# Altium schematic symbol library Resistor - Surface Mount - 0201.SchLib: 301 symbols (part 4 of 5)
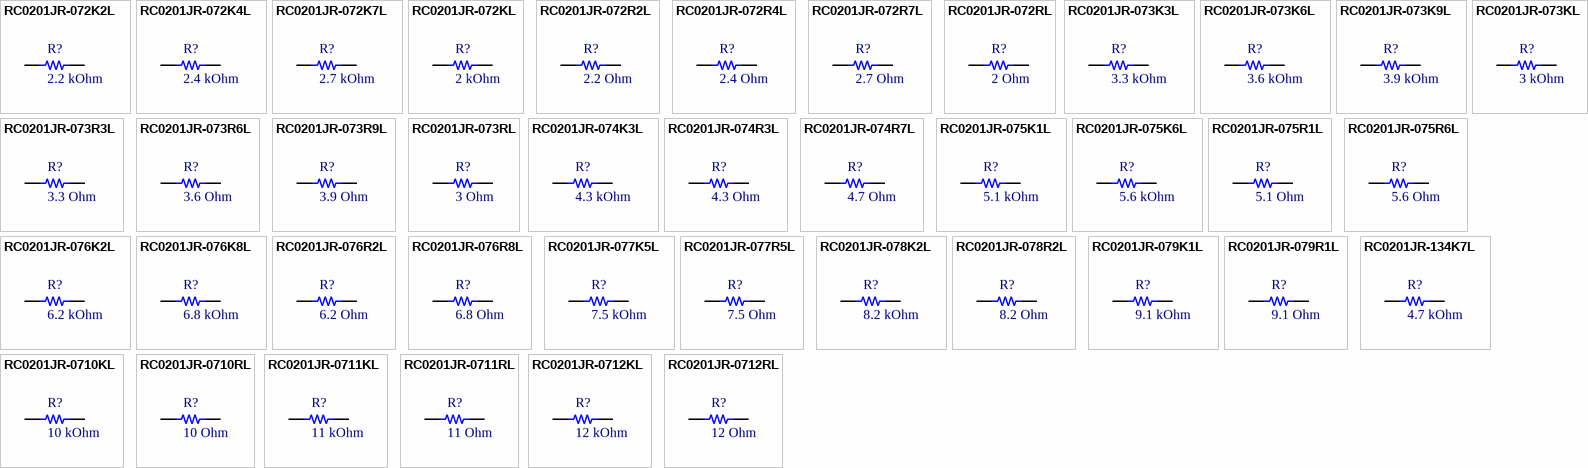
[diagram p10: symbols RC0201JR-072K2L to RC0201JR-0712RL]

## RC0201JR-072RL
designator R?, comment 2 Ohm
RES 2 OHM 5% 1/20W 0201; Manufacturer: Yageo; Part Number: RC0201JR-072RL; Power (Watt): 0.05W; ComponentLink1Description: Datasheet; ComponentLink1URL: https://www.yageo.com/upload/media/product/products/datasheet/rchip/PYu-RC_Group_51_RoHS_L_12.pdf; ComponentLink2Description: Digikey link; ComponentLink2URL: https://www.digikey.com/en/products/detail/yageo/RC0201JR-072RL/5917139; ComponentLink3Description: LCSC link; ComponentLink3URL: https://lcsc.com/product-detail/Chip-Resistor-Surface-Mount_YAGEO-RC0201JR-072RL_C474641.html?s_z=n_RC0201JR-072RL; Value: 2 Ohm; Package: 0201 (0603 Metric); Tolerance: ±5%; Operating Temperature: -55°C ~ 125°C; Supplier 1: Digikey; Supplier Part Number 1: 13-RC0201JR-072RLCT-ND
footprint R0201
pins: 1, 2

## RC0201JR-073K3L
designator R?, comment 3.3 kOhm
RES 3.3K OHM 5% 1/20W 0201; Manufacturer: Yageo; Part Number: RC0201JR-073K3L; Power (Watt): 0.05W; ComponentLink1Description: Datasheet; ComponentLink1URL: https://www.yageo.com/upload/media/product/products/datasheet/rchip/PYu-RC_Group_51_RoHS_L_12.pdf; ComponentLink2Description: Digikey link; ComponentLink2URL: https://www.digikey.com/en/products/detail/yageo/RC0201JR-073K3L/1948949; ComponentLink3Description: LCSC link; ComponentLink3URL: https://lcsc.com/product-detail/Chip-Resistor-Surface-Mount_YAGEO-RC0201JR-073K3L_C138099.html?s_z=n_RC0201JR-073K3L; Value: 3.3 kOhm; Package: 0201 (0603 Metric); Tolerance: ±5%; Operating Temperature: -55°C ~ 125°C; Supplier 1: Future Electronics; Supplier Part Number 1: 6691901
footprint R0201
pins: 1, 2

## RC0201JR-073K6L
designator R?, comment 3.6 kOhm
RES 3.6K OHM 5% 1/20W 0201; Manufacturer: Yageo; Part Number: RC0201JR-073K6L; Power (Watt): 0.05W; ComponentLink1Description: Datasheet; ComponentLink1URL: https://www.yageo.com/upload/media/product/products/datasheet/rchip/PYu-RC_Group_51_RoHS_L_12.pdf; ComponentLink2Description: Digikey link; ComponentLink2URL: https://www.digikey.com/en/products/detail/yageo/RC0201JR-073K6L/5280752; ComponentLink3Description: LCSC link; ComponentLink3URL: https://lcsc.com/product-detail/Chip-Resistor-Surface-Mount_YAGEO-RC0201JR-073K6L_C273284.html?s_z=n_RC0201JR-073K6L; Value: 3.6 kOhm; Package: 0201 (0603 Metric); Tolerance: ±5%; Operating Temperature: -55°C ~ 125°C; Supplier 1: Digikey; Supplier Part Number 1: YAG2892CT-ND
footprint R0201
pins: 1, 2

## RC0201JR-073K9L
designator R?, comment 3.9 kOhm
RES 3.9K OHM 5% 1/20W 0201; Manufacturer: Yageo; Part Number: RC0201JR-073K9L; Power (Watt): 0.05W; ComponentLink1Description: Datasheet; ComponentLink1URL: https://www.yageo.com/upload/media/product/products/datasheet/rchip/PYu-RC_Group_51_RoHS_L_12.pdf; ComponentLink2Description: Digikey link; ComponentLink2URL: https://www.digikey.com/en/products/detail/yageo/RC0201JR-073K9L/1948950; ComponentLink3Description: LCSC link; ComponentLink3URL: https://lcsc.com/product-detail/Chip-Resistor-Surface-Mount_YAGEO-RC0201JR-073K9L_C295851.html?s_z=n_RC0201JR-073K9L; Value: 3.9 kOhm; Package: 0201 (0603 Metric); Tolerance: ±5%; Operating Temperature: -55°C ~ 125°C; Supplier 1: Future Electronics; Supplier Part Number 1: 4187605
footprint R0201
pins: 1, 2

## RC0201JR-073KL
designator R?, comment 3 kOhm
RES 3K OHM 5% 1/20W 0201; Manufacturer: Yageo; Part Number: RC0201JR-073KL; Power (Watt): 0.05W; ComponentLink1Description: Datasheet; ComponentLink1URL: https://www.yageo.com/upload/media/product/products/datasheet/rchip/PYu-RC_Group_51_RoHS_L_12.pdf; ComponentLink2Description: Digikey link; ComponentLink2URL: https://www.digikey.com/en/products/detail/yageo/RC0201JR-073KL/1948951; ComponentLink3Description: LCSC link; ComponentLink3URL: https://lcsc.com/product-detail/Chip-Resistor-Surface-Mount_YAGEO-RC0201JR-073KL_C274884.html?s_z=n_RC0201JR-073KL; Value: 3 kOhm; Package: 0201 (0603 Metric); Tolerance: ±5%; Operating Temperature: -55°C ~ 125°C; Supplier 1: Digikey; Supplier Part Number 1: 311-3KNCT-ND
footprint R0201
pins: 1, 2

## RC0201JR-073R3L
designator R?, comment 3.3 Ohm
RES 3.3 OHM 5% 1/20W 0201; Manufacturer: Yageo; Part Number: RC0201JR-073R3L; Power (Watt): 0.05W; ComponentLink1Description: Datasheet; ComponentLink1URL: https://www.yageo.com/upload/media/product/products/datasheet/rchip/PYu-RC_Group_51_RoHS_L_12.pdf; ComponentLink2Description: Digikey link; ComponentLink2URL: https://www.digikey.com/en/products/detail/yageo/RC0201JR-073R3L/1115878; ComponentLink3Description: LCSC link; ComponentLink3URL: https://lcsc.com/product-detail/Chip-Resistor-Surface-Mount_YAGEO-RC0201JR-073R3L_C274339.html?s_z=n_RC0201JR-073R3L; Value: 3.3 Ohm; Package: 0201 (0603 Metric); Tolerance: ±5%; Operating Temperature: -55°C ~ 125°C; Supplier 1: Future Electronics; Supplier Part Number 1: 5303862
footprint R0201
pins: 1, 2

## RC0201JR-073R6L
designator R?, comment 3.6 Ohm
RES 3.6 OHM 5% 1/20W 0201; Manufacturer: Yageo; Part Number: RC0201JR-073R6L; Power (Watt): 0.05W; ComponentLink1Description: Datasheet; ComponentLink1URL: https://www.yageo.com/upload/media/product/products/datasheet/rchip/PYu-RC_Group_51_RoHS_L_12.pdf; ComponentLink2Description: Digikey link; ComponentLink2URL: https://www.digikey.com/en/products/detail/yageo/RC0201JR-073R6L/5280757; ComponentLink3Description: LCSC link; ComponentLink3URL: *; Value: 3.6 Ohm; Package: 0201 (0603 Metric); Tolerance: ±5%; Operating Temperature: -55°C ~ 125°C; Supplier 1: Future Electronics; Supplier Part Number 1: 2814267
footprint R0201
pins: 1, 2

## RC0201JR-073R9L
designator R?, comment 3.9 Ohm
RES 3.9 OHM 5% 1/20W 0201; Manufacturer: Yageo; Part Number: RC0201JR-073R9L; Power (Watt): 0.05W; ComponentLink1Description: Datasheet; ComponentLink1URL: https://www.yageo.com/upload/media/product/products/datasheet/rchip/PYu-RC_Group_51_RoHS_L_12.pdf; ComponentLink2Description: Digikey link; ComponentLink2URL: https://www.digikey.com/en/products/detail/yageo/RC0201JR-073R9L/5280758; ComponentLink3Description: LCSC link; ComponentLink3URL: https://lcsc.com/product-detail/Chip-Resistor-Surface-Mount_YAGEO-RC0201JR-073R9L_C474420.html?s_z=n_RC0201JR-073R9L; Value: 3.9 Ohm; Package: 0201 (0603 Metric); Tolerance: ±5%; Operating Temperature: -55°C ~ 125°C; Supplier 1: Future Electronics; Supplier Part Number 1: 6004140
footprint R0201
pins: 1, 2

## RC0201JR-073RL
designator R?, comment 3 Ohm
RES 3 OHM 5% 1/20W 0201; Manufacturer: Yageo; Part Number: RC0201JR-073RL; Power (Watt): 0.05W; ComponentLink1Description: Datasheet; ComponentLink1URL: https://www.yageo.com/upload/media/product/products/datasheet/rchip/PYu-RC_Group_51_RoHS_L_12.pdf; ComponentLink2Description: Digikey link; ComponentLink2URL: https://www.digikey.com/en/products/detail/yageo/RC0201JR-073RL/5917140; ComponentLink3Description: LCSC link; ComponentLink3URL: https://lcsc.com/product-detail/Chip-Resistor-Surface-Mount_YAGEO-RC0201JR-073RL_C474423.html?s_z=n_RC0201JR-073RL; Value: 3 Ohm; Package: 0201 (0603 Metric); Tolerance: ±5%; Operating Temperature: -55°C ~ 125°C; Supplier 1: Digikey; Supplier Part Number 1: 13-RC0201JR-073RLCT-ND
footprint R0201
pins: 1, 2

## RC0201JR-074K3L
designator R?, comment 4.3 kOhm
RES 4.3K OHM 5% 1/20W 0201; Manufacturer: Yageo; Part Number: RC0201JR-074K3L; Power (Watt): 0.05W; ComponentLink1Description: Datasheet; ComponentLink1URL: https://www.yageo.com/upload/media/product/products/datasheet/rchip/PYu-RC_Group_51_RoHS_L_12.pdf; ComponentLink2Description: Digikey link; ComponentLink2URL: https://www.digikey.com/en/products/detail/yageo/RC0201JR-074K3L/1948956; ComponentLink3Description: LCSC link; ComponentLink3URL: https://lcsc.com/product-detail/Chip-Resistor-Surface-Mount_YAGEO-RC0201JR-074K3L_C295856.html?s_z=n_RC0201JR-074K3L; Value: 4.3 kOhm; Package: 0201 (0603 Metric); Tolerance: ±5%; Operating Temperature: -55°C ~ 125°C; Supplier 1: Digikey; Supplier Part Number 1: 311-4.3KNCT-ND
footprint R0201
pins: 1, 2

## RC0201JR-074R3L
designator R?, comment 4.3 Ohm
RES 4.3 OHM 5% 1/20W 0201; Manufacturer: Yageo; Part Number: RC0201JR-074R3L; Power (Watt): 0.05W; ComponentLink1Description: Datasheet; ComponentLink1URL: https://www.yageo.com/upload/media/product/products/datasheet/rchip/PYu-RC_Group_51_RoHS_L_12.pdf; ComponentLink2Description: Digikey link; ComponentLink2URL: https://www.digikey.com/en/products/detail/yageo/RC0201JR-074R3L/5280765; ComponentLink3Description: LCSC link; ComponentLink3URL: *; Value: 4.3 Ohm; Package: 0201 (0603 Metric); Tolerance: ±5%; Operating Temperature: -55°C ~ 125°C
footprint R0201
pins: 1, 2

## RC0201JR-074R7L
designator R?, comment 4.7 Ohm
RES 4.7 OHM 5% 1/20W 0201; Manufacturer: Yageo; Part Number: RC0201JR-074R7L; Power (Watt): 0.05W; ComponentLink1Description: Datasheet; ComponentLink1URL: https://www.yageo.com/upload/media/product/products/datasheet/rchip/PYu-RC_Group_51_RoHS_L_12.pdf; ComponentLink2Description: Digikey link; ComponentLink2URL: https://www.digikey.com/en/products/detail/yageo/RC0201JR-074R7L/5280766; ComponentLink3Description: LCSC link; ComponentLink3URL: https://lcsc.com/product-detail/Chip-Resistor-Surface-Mount_YAGEO-RC0201JR-074R7L_C474427.html?s_z=n_RC0201JR-074R7L; Value: 4.7 Ohm; Package: 0201 (0603 Metric); Tolerance: ±5%; Operating Temperature: -55°C ~ 125°C; Supplier 1: Digikey; Supplier Part Number 1: YAG2906CT-ND
footprint R0201
pins: 1, 2

## RC0201JR-075K1L
designator R?, comment 5.1 kOhm
RES 5.1K OHM 5% 1/20W 0201; Manufacturer: Yageo; Part Number: RC0201JR-075K1L; Power (Watt): 0.05W; ComponentLink1Description: Datasheet; ComponentLink1URL: https://www.yageo.com/upload/media/product/products/datasheet/rchip/PYu-RC_Group_51_RoHS_L_12.pdf; ComponentLink2Description: Digikey link; ComponentLink2URL: https://www.digikey.com/en/products/detail/yageo/RC0201JR-075K1L/5280770; ComponentLink3Description: LCSC link; ComponentLink3URL: https://lcsc.com/product-detail/Chip-Resistor-Surface-Mount_YAGEO-RC0201JR-075K1L_C163490.html?s_z=n_RC0201JR-075K1L; Value: 5.1 kOhm; Package: 0201 (0603 Metric); Tolerance: ±5%; Operating Temperature: -55°C ~ 125°C; Supplier 1: Digikey; Supplier Part Number 1: YAG2910CT-ND
footprint R0201
pins: 1, 2

## RC0201JR-075K6L
designator R?, comment 5.6 kOhm
RES 5.6K OHM 5% 1/20W 0201; Manufacturer: Yageo; Part Number: RC0201JR-075K6L; Power (Watt): 0.05W; ComponentLink1Description: Datasheet; ComponentLink1URL: https://www.yageo.com/upload/media/product/products/datasheet/rchip/PYu-RC_Group_51_RoHS_L_12.pdf; ComponentLink2Description: Digikey link; ComponentLink2URL: https://www.digikey.com/en/products/detail/yageo/RC0201JR-075K6L/1948961; ComponentLink3Description: LCSC link; ComponentLink3URL: https://lcsc.com/product-detail/Chip-Resistor-Surface-Mount_YAGEO-RC0201JR-075K6L_C138094.html?s_z=n_RC0201JR-075K6L; Value: 5.6 kOhm; Package: 0201 (0603 Metric); Tolerance: ±5%; Operating Temperature: -55°C ~ 125°C; Supplier 1: Digikey; Supplier Part Number 1: 311-5.6KNCT-ND
footprint R0201
pins: 1, 2

## RC0201JR-075R1L
designator R?, comment 5.1 Ohm
RES 5.1 OHM 5% 1/20W 0201; Manufacturer: Yageo; Part Number: RC0201JR-075R1L; Power (Watt): 0.05W; ComponentLink1Description: Datasheet; ComponentLink1URL: https://www.yageo.com/upload/media/product/products/datasheet/rchip/PYu-RC_Group_51_RoHS_L_12.pdf; ComponentLink2Description: Digikey link; ComponentLink2URL: https://www.digikey.com/en/products/detail/yageo/RC0201JR-075R1L/5280773; ComponentLink3Description: LCSC link; ComponentLink3URL: https://lcsc.com/product-detail/Chip-Resistor-Surface-Mount_YAGEO-RC0201JR-075R1L_C309540.html?s_z=n_RC0201JR-075R1L; Value: 5.1 Ohm; Package: 0201 (0603 Metric); Tolerance: ±5%; Operating Temperature: -55°C ~ 125°C; Supplier 1: Digikey; Supplier Part Number 1: YAG2913CT-ND
footprint R0201
pins: 1, 2

## RC0201JR-075R6L
designator R?, comment 5.6 Ohm
RES 5.6 OHM 5% 1/20W 0201; Manufacturer: Yageo; Part Number: RC0201JR-075R6L; Power (Watt): 0.05W; ComponentLink1Description: Datasheet; ComponentLink1URL: https://www.yageo.com/upload/media/product/products/datasheet/rchip/PYu-RC_Group_51_RoHS_L_12.pdf; ComponentLink2Description: Digikey link; ComponentLink2URL: https://www.digikey.com/en/products/detail/yageo/RC0201JR-075R6L/5280774; ComponentLink3Description: LCSC link; ComponentLink3URL: https://lcsc.com/product-detail/Chip-Resistor-Surface-Mount_YAGEO-RC0201JR-075R6L_C474430.html?s_z=n_RC0201JR-075R6L; Value: 5.6 Ohm; Package: 0201 (0603 Metric); Tolerance: ±5%; Operating Temperature: -55°C ~ 125°C; Supplier 1: Digikey; Supplier Part Number 1: YAG2914CT-ND
footprint R0201
pins: 1, 2

## RC0201JR-076K2L
designator R?, comment 6.2 kOhm
RES 6.2K OHM 5% 1/20W 0201; Manufacturer: Yageo; Part Number: RC0201JR-076K2L; Power (Watt): 0.05W; ComponentLink1Description: Datasheet; ComponentLink1URL: https://www.yageo.com/upload/media/product/products/datasheet/rchip/PYu-RC_Group_51_RoHS_L_12.pdf; ComponentLink2Description: Digikey link; ComponentLink2URL: https://www.digikey.com/en/products/detail/yageo/RC0201JR-076K2L/5280780; ComponentLink3Description: LCSC link; ComponentLink3URL: https://lcsc.com/product-detail/Chip-Resistor-Surface-Mount_YAGEO-RC0201JR-076K2L_C295861.html?s_z=n_RC0201JR-076K2L; Value: 6.2 kOhm; Package: 0201 (0603 Metric); Tolerance: ±5%; Operating Temperature: -55°C ~ 125°C; Supplier 1: Digikey; Supplier Part Number 1: YAG2920CT-ND
footprint R0201
pins: 1, 2

## RC0201JR-076K8L
designator R?, comment 6.8 kOhm
RES 6.8K OHM 5% 1/20W 0201; Manufacturer: Yageo; Part Number: RC0201JR-076K8L; Power (Watt): 0.05W; ComponentLink1Description: Datasheet; ComponentLink1URL: https://www.yageo.com/upload/media/product/products/datasheet/rchip/PYu-RC_Group_51_RoHS_L_12.pdf; ComponentLink2Description: Digikey link; ComponentLink2URL: https://www.digikey.com/en/products/detail/yageo/RC0201JR-076K8L/5280781; ComponentLink3Description: LCSC link; ComponentLink3URL: https://lcsc.com/product-detail/Chip-Resistor-Surface-Mount_YAGEO-RC0201JR-076K8L_C295862.html?s_z=n_RC0201JR-076K8L; Value: 6.8 kOhm; Package: 0201 (0603 Metric); Tolerance: ±5%; Operating Temperature: -55°C ~ 125°C; Supplier 1: Digikey; Supplier Part Number 1: YAG2921CT-ND
footprint R0201
pins: 1, 2

## RC0201JR-076R2L
designator R?, comment 6.2 Ohm
RES 6.2 OHM 5% 1/20W 0201; Manufacturer: Yageo; Part Number: RC0201JR-076R2L; Power (Watt): 0.05W; ComponentLink1Description: Datasheet; ComponentLink1URL: https://www.yageo.com/upload/media/product/products/datasheet/rchip/PYu-RC_Group_51_RoHS_L_12.pdf; ComponentLink2Description: Digikey link; ComponentLink2URL: https://www.digikey.com/en/products/detail/yageo/RC0201JR-076R2L/5280784; ComponentLink3Description: LCSC link; ComponentLink3URL: https://lcsc.com/product-detail/Chip-Resistor-Surface-Mount_YAGEO-RC0201JR-076R2L_C364362.html?s_z=n_RC0201JR-076R2L; Value: 6.2 Ohm; Package: 0201 (0603 Metric); Tolerance: ±5%; Operating Temperature: -55°C ~ 125°C; Supplier 1: Digikey; Supplier Part Number 1: YAG2924CT-ND
footprint R0201
pins: 1, 2

## RC0201JR-076R8L
designator R?, comment 6.8 Ohm
RES 6.8 OHM 5% 1/20W 0201; Manufacturer: Yageo; Part Number: RC0201JR-076R8L; ComponentLink1Description: Datasheet; ComponentLink1URL: https://www.yageo.com/upload/media/product/products/datasheet/rchip/PYu-RC_Group_51_RoHS_L_12.pdf; ComponentLink2Description: Digikey link; ComponentLink2URL: https://www.digikey.com/en/products/detail/yageo/RC0201JR-076R8L/5280785; ComponentLink3Description: LCSC link; ComponentLink3URL: https://lcsc.com/product-detail/Chip-Resistor-Surface-Mount_YAGEO-RC0201JR-076R8L_C474435.html?s_z=n_RC0201JR-076R8L; Value: 6.8 Ohm; Package: 0201 (0603 Metric); Tolerance: ±5%; Operating Temperature: -55°C ~ 125°C; Power (Watt): *; Supplier 1: Digikey; Supplier Part Number 1: YAG2925CT-ND
footprint R0201
pins: 1, 2

## RC0201JR-077K5L
designator R?, comment 7.5 kOhm
RES 7.5K OHM 5% 1/20W 0201; Manufacturer: Yageo; Part Number: RC0201JR-077K5L; Power (Watt): 0.05W; ComponentLink1Description: Datasheet; ComponentLink1URL: https://www.yageo.com/upload/media/product/products/datasheet/rchip/PYu-RC_Group_51_RoHS_L_12.pdf; ComponentLink2Description: Digikey link; ComponentLink2URL: https://www.digikey.com/en/products/detail/yageo/RC0201JR-077K5L/5280790; ComponentLink3Description: LCSC link; ComponentLink3URL: https://lcsc.com/product-detail/Chip-Resistor-Surface-Mount_YAGEO-RC0201JR-077K5L_C138087.html?s_z=n_RC0201JR-077K5L; Value: 7.5 kOhm; Package: 0201 (0603 Metric); Tolerance: ±5%; Operating Temperature: -55°C ~ 125°C; Supplier 1: Digikey; Supplier Part Number 1: YAG2930CT-ND
footprint R0201
pins: 1, 2

## RC0201JR-077R5L
designator R?, comment 7.5 Ohm
RES 7.5 OHM 5% 1/20W 0201; Manufacturer: Yageo; Part Number: RC0201JR-077R5L; Power (Watt): 0.05W; ComponentLink1Description: Datasheet; ComponentLink1URL: https://www.yageo.com/upload/media/product/products/datasheet/rchip/PYu-RC_Group_51_RoHS_L_12.pdf; ComponentLink2Description: Digikey link; ComponentLink2URL: https://www.digikey.com/en/products/detail/yageo/RC0201JR-077R5L/5280792; ComponentLink3Description: LCSC link; ComponentLink3URL: https://lcsc.com/product-detail/Chip-Resistor-Surface-Mount_YAGEO-RC0201JR-077R5L_C138086.html?s_z=n_RC0201JR-077R5L; Value: 7.5 Ohm; Package: 0201 (0603 Metric); Tolerance: ±5%; Operating Temperature: -55°C ~ 125°C; Supplier 1: Digikey; Supplier Part Number 1: YAG2932CT-ND
footprint R0201
pins: 1, 2

## RC0201JR-078K2L
designator R?, comment 8.2 kOhm
RES 8.2K OHM 5% 1/20W 0201; Manufacturer: Yageo; Part Number: RC0201JR-078K2L; Power (Watt): 0.05W; ComponentLink1Description: Datasheet; ComponentLink1URL: https://www.yageo.com/upload/media/product/products/datasheet/rchip/PYu-RC_Group_51_RoHS_L_12.pdf; ComponentLink2Description: Digikey link; ComponentLink2URL: https://www.digikey.com/en/products/detail/yageo/RC0201JR-078K2L/3202441; ComponentLink3Description: LCSC link; ComponentLink3URL: https://lcsc.com/product-detail/Chip-Resistor-Surface-Mount_YAGEO-RC0201JR-078K2L_C138083.html?s_z=n_RC0201JR-078K2L; Value: 8.2 kOhm; Package: 0201 (0603 Metric); Tolerance: ±5%; Operating Temperature: -55°C ~ 125°C; Supplier 1: Digikey; Supplier Part Number 1: YAG2366CT-ND
footprint R0201
pins: 1, 2

## RC0201JR-078R2L
designator R?, comment 8.2 Ohm
RES 8.2 OHM 5% 1/20W 0201; Manufacturer: Yageo; Part Number: RC0201JR-078R2L; Power (Watt): 0.05W; ComponentLink1Description: Datasheet; ComponentLink1URL: https://www.yageo.com/upload/media/product/products/datasheet/rchip/PYu-RC_Group_51_RoHS_L_12.pdf; ComponentLink2Description: Digikey link; ComponentLink2URL: https://www.digikey.com/en/products/detail/yageo/RC0201JR-078R2L/5280797; ComponentLink3Description: LCSC link; ComponentLink3URL: https://lcsc.com/product-detail/Chip-Resistor-Surface-Mount_YAGEO-RC0201JR-078R2L_C474443.html?s_z=n_RC0201JR-078R2L; Value: 8.2 Ohm; Package: 0201 (0603 Metric); Tolerance: ±5%; Operating Temperature: -55°C ~ 125°C; Supplier 1: Digikey; Supplier Part Number 1: YAG2937CT-ND
footprint R0201
pins: 1, 2

## RC0201JR-079K1L
designator R?, comment 9.1 kOhm
RES 9.1K OHM 5% 1/20W 0201; Manufacturer: Yageo; Part Number: RC0201JR-079K1L; Power (Watt): 0.05W; ComponentLink1Description: Datasheet; ComponentLink1URL: https://www.yageo.com/upload/media/product/products/datasheet/rchip/PYu-RC_Group_51_RoHS_L_12.pdf; ComponentLink2Description: Digikey link; ComponentLink2URL: https://www.digikey.com/en/products/detail/yageo/RC0201JR-079K1L/5280801; ComponentLink3Description: LCSC link; ComponentLink3URL: https://lcsc.com/product-detail/Chip-Resistor-Surface-Mount_YAGEO-RC0201JR-079K1L_C295871.html?s_z=n_RC0201JR-079K1L; Value: 9.1 kOhm; Package: 0201 (0603 Metric); Tolerance: ±5%; Operating Temperature: -55°C ~ 125°C; Supplier 1: Digikey; Supplier Part Number 1: YAG2941CT-ND
footprint R0201
pins: 1, 2

## RC0201JR-079R1L
designator R?, comment 9.1 Ohm
RES 9.1 OHM 5% 1/20W 0201; Manufacturer: Yageo; Part Number: RC0201JR-079R1L; Power (Watt): 0.05W; ComponentLink1Description: Datasheet; ComponentLink1URL: https://www.yageo.com/upload/media/product/products/datasheet/rchip/PYu-RC_Group_51_RoHS_L_12.pdf; ComponentLink2Description: Digikey link; ComponentLink2URL: https://www.digikey.com/en/products/detail/yageo/RC0201JR-079R1L/5280803; ComponentLink3Description: LCSC link; ComponentLink3URL: *; Value: 9.1 Ohm; Package: 0201 (0603 Metric); Tolerance: ±5%; Operating Temperature: -55°C ~ 125°C; Supplier 1: Digikey; Supplier Part Number 1: YAG2943CT-ND
footprint R0201
pins: 1, 2

## RC0201JR-134K7L
designator R?, comment 4.7 kOhm
RES 4.7K OHM 5% 1/20W 0201; Manufacturer: Yageo; Part Number: RC0201JR-134K7L; Power (Watt): 0.05W; ComponentLink1Description: Datasheet; ComponentLink1URL: https://www.yageo.com/upload/media/product/products/datasheet/rchip/PYu-RC_Group_51_RoHS_L_12.pdf; ComponentLink2Description: Digikey link; ComponentLink2URL: https://www.digikey.com/en/products/detail/yageo/RC0201JR-134K7L/17020239; ComponentLink3Description: LCSC link; ComponentLink3URL: https://lcsc.com/product-detail/Chip-Resistor-Surface-Mount_YAGEO-RC0201JR-134K7L_C20161190.html?s_z=n_RC0201JR-134K7L; Value: 4.7 kOhm; Package: 0201 (0603 Metric); Tolerance: ±5%; Operating Temperature: -55°C ~ 125°C; Supplier 1: Digikey; Supplier Part Number 1: 13-RC0201JR-134K7LCT-ND
footprint R0201
pins: 1, 2

## RC0201JR-0710KL
designator R?, comment 10 kOhm
RES 10K OHM 5% 1/20W 0201; Manufacturer: Yageo; Part Number: RC0201JR-0710KL; Power (Watt): 0.05W; ComponentLink1Description: Datasheet; ComponentLink1URL: https://www.yageo.com/upload/media/product/products/datasheet/rchip/PYu-RC_Group_51_RoHS_L_12.pdf; ComponentLink2Description: Digikey link; ComponentLink2URL: https://www.digikey.com/en/products/detail/yageo/RC0201JR-0710KL/1948901; ComponentLink3Description: LCSC link; ComponentLink3URL: https://lcsc.com/product-detail/Chip-Resistor-Surface-Mount_YAGEO-RC0201JR-0710KL_C138117.html?s_z=n_RC0201JR-0710KL; Value: 10 kOhm; Package: 0201 (0603 Metric); Tolerance: ±5%; Operating Temperature: -55°C ~ 125°C; Supplier 1: Future Electronics; Supplier Part Number 1: 5556147
footprint R0201
pins: 1, 2

## RC0201JR-0710RL
designator R?, comment 10 Ohm
RES 10 OHM 5% 1/20W 0201; Manufacturer: Yageo; Part Number: RC0201JR-0710RL; Power (Watt): 0.05W; ComponentLink1Description: Datasheet; ComponentLink1URL: https://www.yageo.com/upload/media/product/products/datasheet/rchip/PYu-RC_Group_51_RoHS_L_12.pdf; ComponentLink2Description: Digikey link; ComponentLink2URL: https://www.digikey.com/en/products/detail/yageo/RC0201JR-0710RL/1948902; ComponentLink3Description: LCSC link; ComponentLink3URL: https://lcsc.com/product-detail/Chip-Resistor-Surface-Mount_YAGEO-RC0201JR-0710RL_C125638.html?s_z=n_RC0201JR-0710RL; Value: 10 Ohm; Package: 0201 (0603 Metric); Tolerance: ±5%; Operating Temperature: -55°C ~ 125°C; Supplier 1: Digikey; Supplier Part Number 1: 311-10NCT-ND
footprint R0201
pins: 1, 2

## RC0201JR-0711KL
designator R?, comment 11 kOhm
RES 11K OHM 5% 1/20W 0201; Manufacturer: Yageo; Part Number: RC0201JR-0711KL; Power (Watt): 0.05W; ComponentLink1Description: Datasheet; ComponentLink1URL: https://www.yageo.com/upload/media/product/products/datasheet/rchip/PYu-RC_Group_51_RoHS_L_12.pdf; ComponentLink2Description: Digikey link; ComponentLink2URL: https://www.digikey.com/en/products/detail/yageo/RC0201JR-0711KL/1948905; ComponentLink3Description: LCSC link; ComponentLink3URL: https://lcsc.com/product-detail/Chip-Resistor-Surface-Mount_YAGEO-RC0201JR-0711KL_C295825.html?s_z=n_RC0201JR-0711KL; Value: 11 kOhm; Package: 0201 (0603 Metric); Tolerance: ±5%; Operating Temperature: -55°C ~ 125°C; Supplier 1: Future Electronics; Supplier Part Number 1: 6062657
footprint R0201
pins: 1, 2

## RC0201JR-0711RL
designator R?, comment 11 Ohm
RES 11 OHM 5% 1/20W 0201; Manufacturer: Yageo; Part Number: RC0201JR-0711RL; Power (Watt): 0.05W; ComponentLink1Description: Datasheet; ComponentLink1URL: https://www.yageo.com/upload/media/product/products/datasheet/rchip/PYu-RC_Group_51_RoHS_L_12.pdf; ComponentLink2Description: Digikey link; ComponentLink2URL: https://www.digikey.com/en/products/detail/yageo/RC0201JR-0711RL/1948906; ComponentLink3Description: LCSC link; ComponentLink3URL: https://lcsc.com/product-detail/Chip-Resistor-Surface-Mount_YAGEO-RC0201JR-0711RL_C295826.html?s_z=n_RC0201JR-0711RL; Value: 11 Ohm; Package: 0201 (0603 Metric); Tolerance: ±5%; Operating Temperature: -55°C ~ 125°C; Supplier 1: Digikey; Supplier Part Number 1: 311-11NCT-ND
footprint R0201
pins: 1, 2

## RC0201JR-0712KL
designator R?, comment 12 kOhm
RES 12K OHM 5% 1/20W 0201; Manufacturer: Yageo; Part Number: RC0201JR-0712KL; Power (Watt): 0.05W; ComponentLink1Description: Datasheet; ComponentLink1URL: https://www.yageo.com/upload/media/product/products/datasheet/rchip/PYu-RC_Group_51_RoHS_L_12.pdf; ComponentLink2Description: Digikey link; ComponentLink2URL: *; ComponentLink3Description: LCSC link; ComponentLink3URL: *; Value: 12 kOhm; Package: 0201 (0603 Metric); Tolerance: ±5%; Operating Temperature: -55°C ~ 125°C; Supplier 1: Digikey; Supplier Part Number 1: 311-12KNCT-ND
footprint R0201
pins: 1, 2

## RC0201JR-0712RL
designator R?, comment 12 Ohm
RES 12 OHM 5% 1/20W 0201; Manufacturer: Yageo; Part Number: RC0201JR-0712RL; Power (Watt): 0.05W; ComponentLink1Description: Datasheet; ComponentLink1URL: https://www.yageo.com/upload/media/product/products/datasheet/rchip/PYu-RC_Group_51_RoHS_L_12.pdf; ComponentLink2Description: Digikey link; ComponentLink2URL: https://www.digikey.com/en/products/detail/yageo/RC0201JR-0712RL/1948910; ComponentLink3Description: LCSC link; ComponentLink3URL: https://lcsc.com/product-detail/Chip-Resistor-Surface-Mount_YAGEO-RC0201JR-0712RL_C295827.html?s_z=n_RC0201JR-0712RL; Value: 12 Ohm; Package: 0201 (0603 Metric); Tolerance: ±5%; Operating Temperature: -55°C ~ 125°C; Supplier 1: Digikey; Supplier Part Number 1: 311-12NCT-ND
footprint R0201
pins: 1, 2

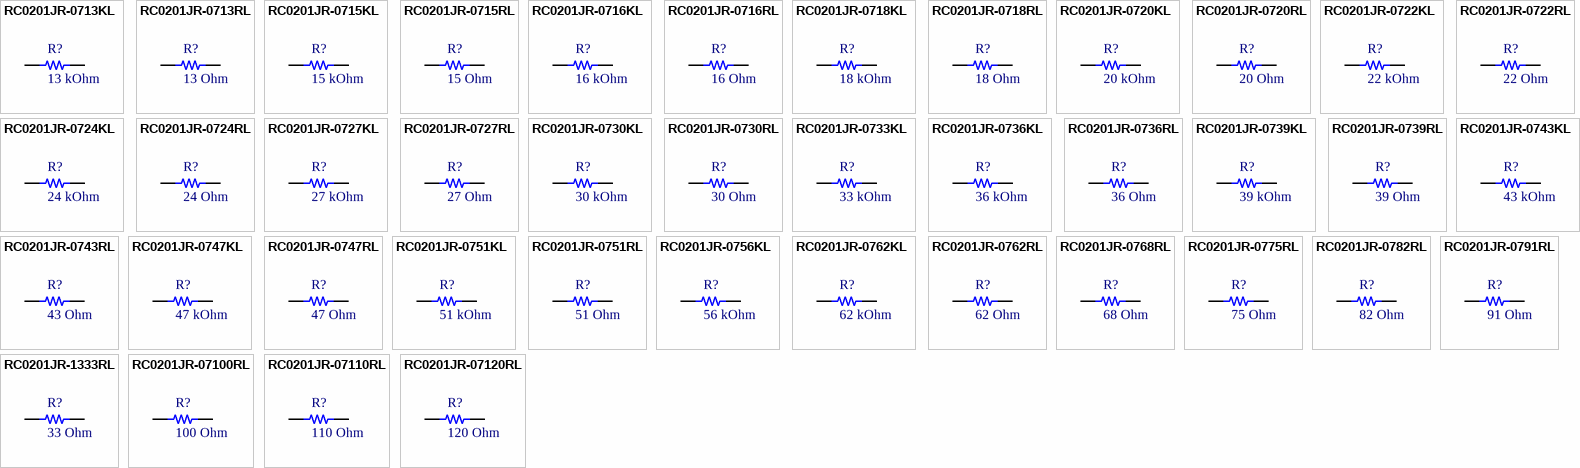
[diagram p6: symbols RC0201JR-0713KL to RC0201JR-07120RL]

## RC0201JR-0713KL
designator R?, comment 13 kOhm
RES 13K OHM 5% 1/20W 0201; Manufacturer: Yageo; Part Number: RC0201JR-0713KL; Power (Watt): 0.05W; ComponentLink1Description: Datasheet; ComponentLink1URL: https://www.yageo.com/upload/media/product/products/datasheet/rchip/PYu-RC_Group_51_RoHS_L_12.pdf; ComponentLink2Description: Digikey link; ComponentLink2URL: https://www.digikey.com/en/products/detail/yageo/RC0201JR-0713KL/5280723; ComponentLink3Description: LCSC link; ComponentLink3URL: https://lcsc.com/product-detail/Chip-Resistor-Surface-Mount_YAGEO-RC0201JR-0713KL_C295830.html?s_z=n_RC0201JR-0713KL; Value: 13 kOhm; Package: 0201 (0603 Metric); Tolerance: ±5%; Operating Temperature: -55°C ~ 125°C; Supplier 1: Digikey; Supplier Part Number 1: YAG2863CT-ND
footprint R0201
pins: 1, 2

## RC0201JR-0713RL
designator R?, comment 13 Ohm
RES 13 OHM 5% 1/20W 0201; Manufacturer: Yageo; Part Number: RC0201JR-0713RL; Power (Watt): 0.05W; ComponentLink1Description: Datasheet; ComponentLink1URL: https://www.yageo.com/upload/media/product/products/datasheet/rchip/PYu-RC_Group_51_RoHS_L_12.pdf; ComponentLink2Description: Digikey link; ComponentLink2URL: https://www.digikey.com/en/products/detail/yageo/RC0201JR-0713RL/5280724; ComponentLink3Description: LCSC link; ComponentLink3URL: https://lcsc.com/product-detail/Chip-Resistor-Surface-Mount_YAGEO-RC0201JR-0713RL_C295831.html?s_z=n_RC0201JR-0713RL; Value: 13 Ohm; Package: 0201 (0603 Metric); Tolerance: ±5%; Operating Temperature: -55°C ~ 125°C; Supplier 1: Digikey; Supplier Part Number 1: YAG2864CT-ND
footprint R0201
pins: 1, 2

## RC0201JR-0715KL
designator R?, comment 15 kOhm
RES 15K OHM 5% 1/20W 0201; Manufacturer: Yageo; Part Number: RC0201JR-0715KL; Power (Watt): 0.05W; ComponentLink1Description: Datasheet; ComponentLink1URL: https://www.yageo.com/upload/media/product/products/datasheet/rchip/PYu-RC_Group_51_RoHS_L_12.pdf; ComponentLink2Description: Digikey link; ComponentLink2URL: https://www.digikey.com/en/products/detail/yageo/RC0201JR-0715KL/1948912; ComponentLink3Description: LCSC link; ComponentLink3URL: https://lcsc.com/product-detail/Chip-Resistor-Surface-Mount_YAGEO-RC0201JR-0715KL_C273294.html?s_z=n_RC0201JR-0715KL; Value: 15 kOhm; Package: 0201 (0603 Metric); Tolerance: ±5%; Operating Temperature: -55°C ~ 125°C; Supplier 1: Digikey; Supplier Part Number 1: 311-15KNCT-ND
footprint R0201
pins: 1, 2

## RC0201JR-0715RL
designator R?, comment 15 Ohm
RES 15 OHM 5% 1/20W 0201; Manufacturer: Yageo; Part Number: RC0201JR-0715RL; Power (Watt): 0.05W; ComponentLink1Description: Datasheet; ComponentLink1URL: https://www.yageo.com/upload/media/product/products/datasheet/rchip/PYu-RC_Group_51_RoHS_L_12.pdf; ComponentLink2Description: Digikey link; ComponentLink2URL: https://www.digikey.com/en/products/detail/yageo/RC0201JR-0715RL/3202428; ComponentLink3Description: LCSC link; ComponentLink3URL: https://lcsc.com/product-detail/Chip-Resistor-Surface-Mount_YAGEO-RC0201JR-0715RL_C142014.html?s_z=n_RC0201JR-0715RL; Value: 15 Ohm; Package: 0201 (0603 Metric); Tolerance: ±5%; Operating Temperature: -55°C ~ 125°C; Supplier 1: Digikey; Supplier Part Number 1: YAG2290CT-ND
footprint R0201
pins: 1, 2

## RC0201JR-0716KL
designator R?, comment 16 kOhm
RES 16K OHM 5% 1/20W 0201; Manufacturer: Yageo; Part Number: RC0201JR-0716KL; Power (Watt): 0.05W; ComponentLink1Description: Datasheet; ComponentLink1URL: https://www.yageo.com/upload/media/product/products/datasheet/rchip/PYu-RC_Group_51_RoHS_L_12.pdf; ComponentLink2Description: Digikey link; ComponentLink2URL: https://www.digikey.com/en/products/detail/yageo/RC0201JR-0716KL/5280726; ComponentLink3Description: LCSC link; ComponentLink3URL: https://lcsc.com/product-detail/Chip-Resistor-Surface-Mount_YAGEO-RC0201JR-0716KL_C295835.html?s_z=n_RC0201JR-0716KL; Value: 16 kOhm; Package: 0201 (0603 Metric); Tolerance: ±5%; Operating Temperature: -55°C ~ 125°C; Supplier 1: Mouser; Supplier Part Number 1: 603-RC0201JR-0716KL
footprint R0201
pins: 1, 2

## RC0201JR-0716RL
designator R?, comment 16 Ohm
RES 16 OHM 5% 1/20W 0201; Manufacturer: Yageo; Part Number: RC0201JR-0716RL; Power (Watt): 0.05W; ComponentLink1Description: Datasheet; ComponentLink1URL: https://www.yageo.com/upload/media/product/products/datasheet/rchip/PYu-RC_Group_51_RoHS_L_12.pdf; ComponentLink2Description: Digikey link; ComponentLink2URL: https://www.digikey.com/en/products/detail/yageo/RC0201JR-0716RL/5280727; ComponentLink3Description: LCSC link; ComponentLink3URL: https://lcsc.com/product-detail/Chip-Resistor-Surface-Mount_YAGEO-RC0201JR-0716RL_C295836.html?s_z=n_RC0201JR-0716RL; Value: 16 Ohm; Package: 0201 (0603 Metric); Tolerance: ±5%; Operating Temperature: -55°C ~ 125°C; Supplier 1: Digikey; Supplier Part Number 1: YAG2867CT-ND
footprint R0201
pins: 1, 2

## RC0201JR-0718KL
designator R?, comment 18 kOhm
RES 18K OHM 5% 1/20W 0201; Manufacturer: Yageo; Part Number: RC0201JR-0718KL; Power (Watt): 0.05W; ComponentLink1Description: Datasheet; ComponentLink1URL: https://www.yageo.com/upload/media/product/products/datasheet/rchip/PYu-RC_Group_51_RoHS_L_12.pdf; ComponentLink2Description: Digikey link; ComponentLink2URL: https://www.digikey.com/en/products/detail/yageo/RC0201JR-0718KL/1948915; ComponentLink3Description: LCSC link; ComponentLink3URL: https://lcsc.com/product-detail/Chip-Resistor-Surface-Mount_YAGEO-RC0201JR-0718KL_C474414.html?s_z=n_RC0201JR-0718KL; Value: 18 kOhm; Package: 0201 (0603 Metric); Tolerance: ±5%; Operating Temperature: -55°C ~ 125°C; Supplier 1: Digikey; Supplier Part Number 1: 311-18KNCT-ND
footprint R0201
pins: 1, 2

## RC0201JR-0718RL
designator R?, comment 18 Ohm
RES 18 OHM 5% 1/20W 0201; Manufacturer: Yageo; Part Number: RC0201JR-0718RL; Power (Watt): 0.05W; ComponentLink1Description: Datasheet; ComponentLink1URL: https://www.yageo.com/upload/media/product/products/datasheet/rchip/PYu-RC_Group_51_RoHS_L_12.pdf; ComponentLink2Description: Digikey link; ComponentLink2URL: https://www.digikey.com/en/products/detail/yageo/RC0201JR-0718RL/3202430; ComponentLink3Description: LCSC link; ComponentLink3URL: https://lcsc.com/product-detail/Chip-Resistor-Surface-Mount_YAGEO-RC0201JR-0718RL_C295839.html?s_z=n_RC0201JR-0718RL; Value: 18 Ohm; Package: 0201 (0603 Metric); Tolerance: ±5%; Operating Temperature: -55°C ~ 125°C; Supplier 1: Future Electronics; Supplier Part Number 1: 7583933
footprint R0201
pins: 1, 2

## RC0201JR-0720KL
designator R?, comment 20 kOhm
RES 20K OHM 5% 1/20W 0201; Manufacturer: Yageo; Part Number: RC0201JR-0720KL; Power (Watt): 0.05W; ComponentLink1Description: Datasheet; ComponentLink1URL: https://www.yageo.com/upload/media/product/products/datasheet/rchip/PYu-RC_Group_51_RoHS_L_12.pdf; ComponentLink2Description: Digikey link; ComponentLink2URL: https://www.digikey.com/en/products/detail/yageo/RC0201JR-0720KL/1948926; ComponentLink3Description: LCSC link; ComponentLink3URL: https://lcsc.com/product-detail/Chip-Resistor-Surface-Mount_YAGEO-RC0201JR-0720KL_C142012.html?s_z=n_RC0201JR-0720KL; Value: 20 kOhm; Package: 0201 (0603 Metric); Tolerance: ±5%; Operating Temperature: -55°C ~ 125°C; Supplier 1: Digikey; Supplier Part Number 1: 311-20KNCT-ND
footprint R0201
pins: 1, 2

## RC0201JR-0720RL
designator R?, comment 20 Ohm
RES 20 OHM 5% 1/20W 0201; Manufacturer: Yageo; Part Number: RC0201JR-0720RL; Power (Watt): 0.05W; ComponentLink1Description: Datasheet; ComponentLink1URL: https://www.yageo.com/upload/media/product/products/datasheet/rchip/PYu-RC_Group_51_RoHS_L_12.pdf; ComponentLink2Description: Digikey link; ComponentLink2URL: https://www.digikey.com/en/products/detail/yageo/RC0201JR-0720RL/1948927; ComponentLink3Description: LCSC link; ComponentLink3URL: https://lcsc.com/product-detail/Chip-Resistor-Surface-Mount_YAGEO-RC0201JR-0720RL_C138113.html?s_z=n_RC0201JR-0720RL; Value: 20 Ohm; Package: 0201 (0603 Metric); Tolerance: ±5%; Operating Temperature: -55°C ~ 125°C; Supplier 1: Digikey; Supplier Part Number 1: 13-RC0201JR-0720RLCT-ND
footprint R0201
pins: 1, 2

## RC0201JR-0722KL
designator R?, comment 22 kOhm
RES 22K OHM 5% 1/20W 0201; Manufacturer: Yageo; Part Number: RC0201JR-0722KL; Power (Watt): 0.05W; ComponentLink1Description: Datasheet; ComponentLink1URL: https://www.yageo.com/upload/media/product/products/datasheet/rchip/PYu-RC_Group_51_RoHS_L_12.pdf; ComponentLink2Description: Digikey link; ComponentLink2URL: https://www.digikey.com/en/products/detail/yageo/RC0201JR-0722KL/1948930; ComponentLink3Description: LCSC link; ComponentLink3URL: https://lcsc.com/product-detail/Chip-Resistor-Surface-Mount_YAGEO-RC0201JR-0722KL_C295842.html?s_z=n_RC0201JR-0722KL; Value: 22 kOhm; Package: 0201 (0603 Metric); Tolerance: ±5%; Operating Temperature: -55°C ~ 125°C; Supplier 1: Digikey; Supplier Part Number 1: 311-22KNCT-ND
footprint R0201
pins: 1, 2

## RC0201JR-0722RL
designator R?, comment 22 Ohm
RES 22 OHM 5% 1/20W 0201; Manufacturer: Yageo; Part Number: RC0201JR-0722RL; Power (Watt): 0.05W; ComponentLink1Description: Datasheet; ComponentLink1URL: https://www.yageo.com/upload/media/product/products/datasheet/rchip/PYu-RC_Group_51_RoHS_L_12.pdf; ComponentLink2Description: Digikey link; ComponentLink2URL: https://www.digikey.com/en/products/detail/yageo/RC0201JR-0722RL/1948931; ComponentLink3Description: LCSC link; ComponentLink3URL: https://lcsc.com/product-detail/Chip-Resistor-Surface-Mount_YAGEO-RC0201JR-0722RL_C142011.html?s_z=n_RC0201JR-0722RL; Value: 22 Ohm; Package: 0201 (0603 Metric); Tolerance: ±5%; Operating Temperature: -55°C ~ 125°C; Supplier 1: Future Electronics; Supplier Part Number 1: 7201981
footprint R0201
pins: 1, 2

## RC0201JR-0724KL
designator R?, comment 24 kOhm
RES 24K OHM 5% 1/20W 0201; Manufacturer: Yageo; Part Number: RC0201JR-0724KL; Power (Watt): 0.05W; ComponentLink1Description: Datasheet; ComponentLink1URL: https://www.yageo.com/upload/media/product/products/datasheet/rchip/PYu-RC_Group_51_RoHS_L_12.pdf; ComponentLink2Description: Digikey link; ComponentLink2URL: https://www.digikey.com/en/products/detail/yageo/RC0201JR-0724KL/1948934; ComponentLink3Description: LCSC link; ComponentLink3URL: https://lcsc.com/product-detail/Chip-Resistor-Surface-Mount_YAGEO-RC0201JR-0724KL_C295844.html?s_z=n_RC0201JR-0724KL; Value: 24 kOhm; Package: 0201 (0603 Metric); Tolerance: ±5%; Operating Temperature: -55°C ~ 125°C; Supplier 1: Future Electronics; Supplier Part Number 1: 5406020
footprint R0201
pins: 1, 2

## RC0201JR-0724RL
designator R?, comment 24 Ohm
RES 24 OHM 5% 1/20W 0201; Manufacturer: Yageo; Part Number: RC0201JR-0724RL; Power (Watt): 0.05W; ComponentLink1Description: Datasheet; ComponentLink1URL: https://www.yageo.com/upload/media/product/products/datasheet/rchip/PYu-RC_Group_51_RoHS_L_12.pdf; ComponentLink2Description: Digikey link; ComponentLink2URL: https://www.digikey.com/en/products/detail/yageo/RC0201JR-0724RL/1948935; ComponentLink3Description: LCSC link; ComponentLink3URL: https://lcsc.com/product-detail/Chip-Resistor-Surface-Mount_YAGEO-RC0201JR-0724RL_C138111.html?s_z=n_RC0201JR-0724RL; Value: 24 Ohm; Package: 0201 (0603 Metric); Tolerance: ±5%; Operating Temperature: -55°C ~ 125°C; Supplier 1: Future Electronics; Supplier Part Number 1: 1091576
footprint R0201
pins: 1, 2

## RC0201JR-0727KL
designator R?, comment 27 kOhm
RES 27K OHM 5% 1/20W 0201; Manufacturer: Yageo; Part Number: RC0201JR-0727KL; Power (Watt): 0.05W; ComponentLink1Description: Datasheet; ComponentLink1URL: https://www.yageo.com/upload/media/product/products/datasheet/rchip/PYu-RC_Group_51_RoHS_L_12.pdf; ComponentLink2Description: Digikey link; ComponentLink2URL: https://www.digikey.com/en/products/detail/yageo/RC0201JR-0727KL/1948937; ComponentLink3Description: LCSC link; ComponentLink3URL: https://lcsc.com/product-detail/Chip-Resistor-Surface-Mount_YAGEO-RC0201JR-0727KL_C274357.html?s_z=n_RC0201JR-0727KL; Value: 27 kOhm; Package: 0201 (0603 Metric); Tolerance: ±5%; Operating Temperature: -55°C ~ 125°C; Supplier 1: Mouser; Supplier Part Number 1: 603-RC0201JR-0727KL
footprint R0201
pins: 1, 2

## RC0201JR-0727RL
designator R?, comment 27 Ohm
RES 27 OHM 5% 1/20W 0201; Manufacturer: Yageo; Part Number: RC0201JR-0727RL; Power (Watt): 0.05W; ComponentLink1Description: Datasheet; ComponentLink1URL: https://www.yageo.com/upload/media/product/products/datasheet/rchip/PYu-RC_Group_51_RoHS_L_12.pdf; ComponentLink2Description: Digikey link; ComponentLink2URL: https://www.digikey.com/en/products/detail/yageo/RC0201JR-0727RL/3202432; ComponentLink3Description: LCSC link; ComponentLink3URL: https://lcsc.com/product-detail/Chip-Resistor-Surface-Mount_YAGEO-RC0201JR-0727RL_C273295.html?s_z=n_RC0201JR-0727RL; Value: 27 Ohm; Package: 0201 (0603 Metric); Tolerance: ±5%; Operating Temperature: -55°C ~ 125°C; Supplier 1: Future Electronics; Supplier Part Number 1: 1652940
footprint R0201
pins: 1, 2

## RC0201JR-0730KL
designator R?, comment 30 kOhm
RES 30K OHM 5% 1/20W 0201; Manufacturer: Yageo; Part Number: RC0201JR-0730KL; Power (Watt): 0.05W; ComponentLink1Description: Datasheet; ComponentLink1URL: https://www.yageo.com/upload/media/product/products/datasheet/rchip/PYu-RC_Group_51_RoHS_L_12.pdf; ComponentLink2Description: Digikey link; ComponentLink2URL: https://www.digikey.com/en/products/detail/yageo/RC0201JR-0730KL/1948942; ComponentLink3Description: LCSC link; ComponentLink3URL: https://lcsc.com/product-detail/Chip-Resistor-Surface-Mount_YAGEO-RC0201JR-0730KL_C138105.html?s_z=n_RC0201JR-0730KL; Value: 30 kOhm; Package: 0201 (0603 Metric); Tolerance: ±5%; Operating Temperature: -55°C ~ 125°C; Supplier 1: Mouser; Supplier Part Number 1: 603-RC0201JR-0730KL
footprint R0201
pins: 1, 2

## RC0201JR-0730RL
designator R?, comment 30 Ohm
RES 30 OHM 5% 1/20W 0201; Manufacturer: Yageo; Part Number: RC0201JR-0730RL; Power (Watt): 0.05W; ComponentLink1Description: Datasheet; ComponentLink1URL: https://www.yageo.com/upload/media/product/products/datasheet/rchip/PYu-RC_Group_51_RoHS_L_12.pdf; ComponentLink2Description: Digikey link; ComponentLink2URL: https://www.digikey.com/en/products/detail/yageo/RC0201JR-0730RL/1948943; ComponentLink3Description: LCSC link; ComponentLink3URL: https://lcsc.com/product-detail/Chip-Resistor-Surface-Mount_YAGEO-RC0201JR-0730RL_C295846.html?s_z=n_RC0201JR-0730RL; Value: 30 Ohm; Package: 0201 (0603 Metric); Tolerance: ±5%; Operating Temperature: -55°C ~ 125°C; Supplier 1: Future Electronics; Supplier Part Number 1: 9035048
footprint R0201
pins: 1, 2

## RC0201JR-0733KL
designator R?, comment 33 kOhm
RES 33K OHM 5% 1/20W 0201; Manufacturer: Yageo; Part Number: RC0201JR-0733KL; Power (Watt): 0.05W; ComponentLink1Description: Datasheet; ComponentLink1URL: https://www.yageo.com/upload/media/product/products/datasheet/rchip/PYu-RC_Group_51_RoHS_L_12.pdf; ComponentLink2Description: Digikey link; ComponentLink2URL: https://www.digikey.com/en/products/detail/yageo/RC0201JR-0733KL/1948946; ComponentLink3Description: LCSC link; ComponentLink3URL: https://lcsc.com/product-detail/Chip-Resistor-Surface-Mount_YAGEO-RC0201JR-0733KL_C138103.html?s_z=n_RC0201JR-0733KL; Value: 33 kOhm; Package: 0201 (0603 Metric); Tolerance: ±5%; Operating Temperature: -55°C ~ 125°C; Supplier 1: Digikey; Supplier Part Number 1: 311-33KNCT-ND
footprint R0201
pins: 1, 2

## RC0201JR-0736KL
designator R?, comment 36 kOhm
RES 36K OHM 5% 1/20W 0201; Manufacturer: Yageo; Part Number: RC0201JR-0736KL; Power (Watt): 0.05W; ComponentLink1Description: Datasheet; ComponentLink1URL: https://www.yageo.com/upload/media/product/products/datasheet/rchip/PYu-RC_Group_51_RoHS_L_12.pdf; ComponentLink2Description: Digikey link; ComponentLink2URL: https://www.digikey.com/en/products/detail/yageo/RC0201JR-0736KL/5280750; ComponentLink3Description: LCSC link; ComponentLink3URL: https://lcsc.com/product-detail/Chip-Resistor-Surface-Mount_YAGEO-RC0201JR-0736KL_C295849.html?s_z=n_RC0201JR-0736KL; Value: 36 kOhm; Package: 0201 (0603 Metric); Tolerance: ±5%; Operating Temperature: -55°C ~ 125°C; Supplier 1: Digikey; Supplier Part Number 1: YAG2890CT-ND
footprint R0201
pins: 1, 2

## RC0201JR-0736RL
designator R?, comment 36 Ohm
RES 36 OHM 5% 1/20W 0201; Manufacturer: Yageo; Part Number: RC0201JR-0736RL; Power (Watt): 0.05W; ComponentLink1Description: Datasheet; ComponentLink1URL: https://www.yageo.com/upload/media/product/products/datasheet/rchip/PYu-RC_Group_51_RoHS_L_12.pdf; ComponentLink2Description: Digikey link; ComponentLink2URL: https://www.digikey.com/en/products/detail/yageo/RC0201JR-0736RL/3202434; ComponentLink3Description: LCSC link; ComponentLink3URL: https://lcsc.com/product-detail/Chip-Resistor-Surface-Mount_YAGEO-RC0201JR-0736RL_C163492.html?s_z=n_RC0201JR-0736RL; Value: 36 Ohm; Package: 0201 (0603 Metric); Tolerance: ±5%; Operating Temperature: -55°C ~ 125°C; Supplier 1: Digikey; Supplier Part Number 1: YAG2360CT-ND
footprint R0201
pins: 1, 2

## RC0201JR-0739KL
designator R?, comment 39 kOhm
RES 39K OHM 5% 1/20W 0201; Manufacturer: Yageo; Part Number: RC0201JR-0739KL; Power (Watt): 0.05W; ComponentLink1Description: Datasheet; ComponentLink1URL: https://www.yageo.com/upload/media/product/products/datasheet/rchip/PYu-RC_Group_51_RoHS_L_12.pdf; ComponentLink2Description: Digikey link; ComponentLink2URL: https://www.digikey.com/en/products/detail/yageo/RC0201JR-0739KL/5280751; ComponentLink3Description: LCSC link; ComponentLink3URL: https://lcsc.com/product-detail/Chip-Resistor-Surface-Mount_YAGEO-RC0201JR-0739KL_C138101.html?s_z=n_RC0201JR-0739KL; Value: 39 kOhm; Package: 0201 (0603 Metric); Tolerance: ±5%; Operating Temperature: -55°C ~ 125°C; Supplier 1: Digikey; Supplier Part Number 1: YAG2891CT-ND
footprint R0201
pins: 1, 2

## RC0201JR-0739RL
designator R?, comment 39 Ohm
RES 39 OHM 5% 1/20W 0201; Manufacturer: Yageo; Part Number: RC0201JR-0739RL; Power (Watt): 0.05W; ComponentLink1Description: Datasheet; ComponentLink1URL: https://www.yageo.com/upload/media/product/products/datasheet/rchip/PYu-RC_Group_51_RoHS_L_12.pdf; ComponentLink2Description: Digikey link; ComponentLink2URL: https://www.digikey.com/en/products/detail/yageo/RC0201JR-0739RL/3202436; ComponentLink3Description: LCSC link; ComponentLink3URL: https://lcsc.com/product-detail/Chip-Resistor-Surface-Mount_YAGEO-RC0201JR-0739RL_C138100.html?s_z=n_RC0201JR-0739RL; Value: 39 Ohm; Package: 0201 (0603 Metric); Tolerance: ±5%; Operating Temperature: -55°C ~ 125°C; Supplier 1: Future Electronics; Supplier Part Number 1: 3141109
footprint R0201
pins: 1, 2

## RC0201JR-0743KL
designator R?, comment 43 kOhm
RES 43K OHM 5% 1/20W 0201; Manufacturer: Yageo; Part Number: RC0201JR-0743KL; Power (Watt): 0.05W; ComponentLink1Description: Datasheet; ComponentLink1URL: https://www.yageo.com/upload/media/product/products/datasheet/rchip/PYu-RC_Group_51_RoHS_L_12.pdf; ComponentLink2Description: Digikey link; ComponentLink2URL: https://www.digikey.com/en/products/detail/yageo/RC0201JR-0743KL/5280761; ComponentLink3Description: LCSC link; ComponentLink3URL: https://lcsc.com/product-detail/Chip-Resistor-Surface-Mount_YAGEO-RC0201JR-0743KL_C295854.html?s_z=n_RC0201JR-0743KL; Value: 43 kOhm; Package: 0201 (0603 Metric); Tolerance: ±5%; Operating Temperature: -55°C ~ 125°C; Supplier 1: Future Electronics; Supplier Part Number 1: 2132060
footprint R0201
pins: 1, 2

## RC0201JR-0743RL
designator R?, comment 43 Ohm
RES 43 OHM 5% 1/20W 0201; Manufacturer: Yageo; Part Number: RC0201JR-0743RL; Power (Watt): 0.05W; ComponentLink1Description: Datasheet; ComponentLink1URL: https://www.yageo.com/upload/media/product/products/datasheet/rchip/PYu-RC_Group_51_RoHS_L_12.pdf; ComponentLink2Description: Digikey link; ComponentLink2URL: https://www.digikey.com/en/products/detail/yageo/RC0201JR-0743RL/5280762; ComponentLink3Description: LCSC link; ComponentLink3URL: https://lcsc.com/product-detail/Chip-Resistor-Surface-Mount_YAGEO-RC0201JR-0743RL_C295855.html?s_z=n_RC0201JR-0743RL; Value: 43 Ohm; Package: 0201 (0603 Metric); Tolerance: ±5%; Operating Temperature: -55°C ~ 125°C; Supplier 1: Digikey; Supplier Part Number 1: YAG2902CT-ND
footprint R0201
pins: 1, 2

## RC0201JR-0747KL
designator R?, comment 47 kOhm
RES 47K OHM 5% 1/20W 0201; Manufacturer: Yageo; Part Number: RC0201JR-0747KL; Power (Watt): 0.05W; ComponentLink1Description: Datasheet; ComponentLink1URL: https://www.yageo.com/upload/media/product/products/datasheet/rchip/PYu-RC_Group_51_RoHS_L_12.pdf; ComponentLink2Description: Digikey link; ComponentLink2URL: *; ComponentLink3Description: LCSC link; ComponentLink3URL: *; Value: 47 kOhm; Package: 0201 (0603 Metric); Tolerance: ±5%; Operating Temperature: -55°C ~ 125°C; Supplier 1: Digikey; Supplier Part Number 1: 311-47KNCT-ND
footprint R0201
pins: 1, 2

## RC0201JR-0747RL
designator R?, comment 47 Ohm
RES 47 OHM 5% 1/20W 0201; Manufacturer: Yageo; Part Number: RC0201JR-0747RL; Power (Watt): 0.05W; ComponentLink1Description: Datasheet; ComponentLink1URL: https://www.yageo.com/upload/media/product/products/datasheet/rchip/PYu-RC_Group_51_RoHS_L_12.pdf; ComponentLink2Description: Digikey link; ComponentLink2URL: https://www.digikey.com/en/products/detail/yageo/RC0201JR-0747RL/1948955; ComponentLink3Description: LCSC link; ComponentLink3URL: https://lcsc.com/product-detail/Chip-Resistor-Surface-Mount_YAGEO-RC0201JR-0747RL_C138096.html?s_z=n_RC0201JR-0747RL; Value: 47 Ohm; Package: 0201 (0603 Metric); Tolerance: ±5%; Operating Temperature: -55°C ~ 125°C; Supplier 1: Digikey; Supplier Part Number 1: 311-47NCT-ND
footprint R0201
pins: 1, 2

## RC0201JR-0751KL
designator R?, comment 51 kOhm
RES 51K OHM 5% 1/20W 0201; Manufacturer: Yageo; Part Number: RC0201JR-0751KL; Power (Watt): 0.05W; ComponentLink1Description: Datasheet; ComponentLink1URL: https://www.yageo.com/upload/media/product/products/datasheet/rchip/PYu-RC_Group_51_RoHS_L_12.pdf; ComponentLink2Description: Digikey link; ComponentLink2URL: https://www.digikey.com/en/products/detail/yageo/RC0201JR-0751KL/1948958; ComponentLink3Description: LCSC link; ComponentLink3URL: https://lcsc.com/product-detail/Chip-Resistor-Surface-Mount_YAGEO-RC0201JR-0751KL_C274885.html?s_z=n_RC0201JR-0751KL; Value: 51 kOhm; Package: 0201 (0603 Metric); Tolerance: ±5%; Operating Temperature: -55°C ~ 125°C; Supplier 1: Future Electronics; Supplier Part Number 1: 8689416
footprint R0201
pins: 1, 2

## RC0201JR-0751RL
designator R?, comment 51 Ohm
RES 51 OHM 5% 1/20W 0201; Manufacturer: Yageo; Part Number: RC0201JR-0751RL; Power (Watt): 0.05W; ComponentLink1Description: Datasheet; ComponentLink1URL: https://www.yageo.com/upload/media/product/products/datasheet/rchip/PYu-RC_Group_51_RoHS_L_12.pdf; ComponentLink2Description: Digikey link; ComponentLink2URL: https://www.digikey.com/en/products/detail/yageo/RC0201JR-0751RL/1948959; ComponentLink3Description: LCSC link; ComponentLink3URL: https://lcsc.com/product-detail/Chip-Resistor-Surface-Mount_YAGEO-RC0201JR-0751RL_C142007.html?s_z=n_RC0201JR-0751RL; Value: 51 Ohm; Package: 0201 (0603 Metric); Tolerance: ±5%; Operating Temperature: -55°C ~ 125°C; Supplier 1: Digikey; Supplier Part Number 1: 311-51NCT-ND
footprint R0201
pins: 1, 2

## RC0201JR-0756KL
designator R?, comment 56 kOhm
RES 56K OHM 5% 1/20W 0201; Manufacturer: Yageo; Part Number: RC0201JR-0756KL; Power (Watt): 0.05W; ComponentLink1Description: Datasheet; ComponentLink1URL: https://www.yageo.com/upload/media/product/products/datasheet/rchip/PYu-RC_Group_51_RoHS_L_12.pdf; ComponentLink2Description: Digikey link; ComponentLink2URL: https://www.digikey.com/en/products/detail/yageo/RC0201JR-0756KL/5280769; ComponentLink3Description: LCSC link; ComponentLink3URL: https://lcsc.com/product-detail/Chip-Resistor-Surface-Mount_YAGEO-RC0201JR-0756KL_C295859.html?s_z=n_RC0201JR-0756KL; Value: 56 kOhm; Package: 0201 (0603 Metric); Tolerance: ±5%; Operating Temperature: -55°C ~ 125°C; Supplier 1: Digikey; Supplier Part Number 1: YAG2909CT-ND
footprint R0201
pins: 1, 2